# EAGLE library part MAX3032_3033 (library SKAARHOJ)
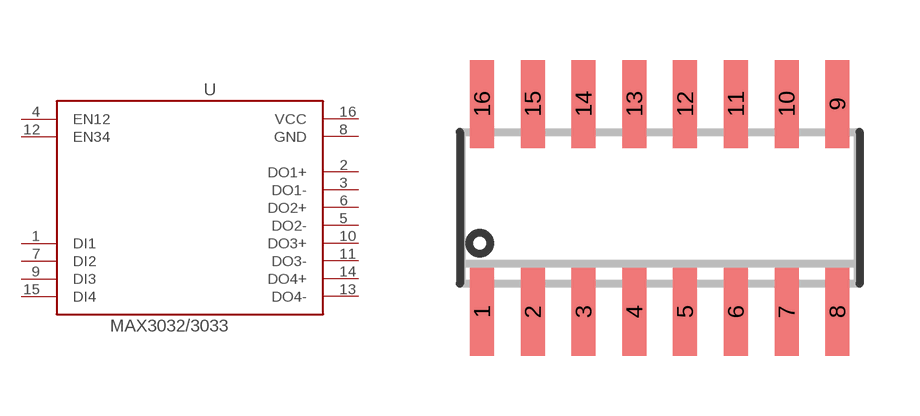
[diagram p51: symbol with the pads of SOIC16; footprint SOIC16]

Designator prefix -

## MAX3032_3033  [SOIC16]
1  DI1  in
2  DO1+  out
3  DO1-  out
4  EN12  in
5  DO2-  out
6  DO2+  out
7  DI2  in
8  GND  pwr
9  DI3  in
10  DO3+  out
11  DO3-  out
12  EN34  in
13  DO4-  out
14  DO4+  out
15  DI4  in
16  VCC  pwr

## Footprint SOIC16 (pad centres in mm)
SMALL OUTLINE INTEGRATED CIRCUIT
smd 0.6 x 2.2: 1 -4.445,-2.6; 2 -3.175,-2.6; 3 -1.905,-2.6; 4 -0.635,-2.6; 5 0.635,-2.6; 6 1.905,-2.6; 7 3.175,-2.6; 8 4.445,-2.6; 9 4.445,2.6; 10 3.175,2.6; 11 1.905,2.6; 12 0.635,2.6; 13 -0.635,2.6; 14 -1.905,2.6; 15 -3.175,2.6; 16 -4.445,2.6